# EAGLE library part SDCARD_EXT (library LearningByMaking)
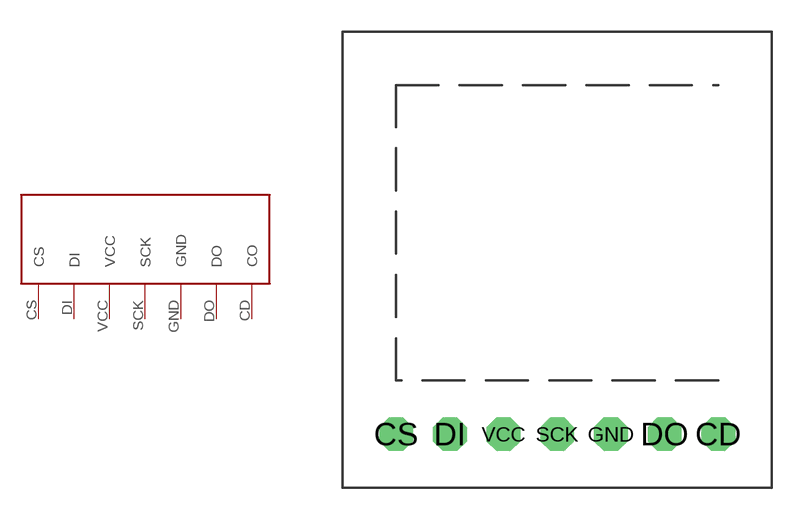
[diagram p5: symbol with the pads of SDCARD_EXT; footprint SDCARD_EXT]

Designator prefix -

## SDCARD_EXT  [SDCARD_EXT]
CD  CO
CS  CS
DI  DI
DO  DO
GND  GND
SCK  SCK
VCC  VCC

## Footprint SDCARD_EXT (pad centres in mm)
drill 0.914 pad 1.6 octagon: CD 7.62,-8.89; CS -7.62,-8.89; DI -5.08,-8.89; DO 5.08,-8.89; GND 2.54,-8.89; SCK 0,-8.89; VCC -2.54,-8.89